# Altium footprint library SOT95P240X110-3N (1).PcbLib: 1 footprints
Each footprint in its own frame and in the unit in brackets; x right, y up, seen from the top. Pads: shape width x height; smd on the part's side, far side on the other; paste and mask are expansions set on the pad; w line width, h text height; cw(c..) or ccw(c..) is an arc to the next point about the centre after c.
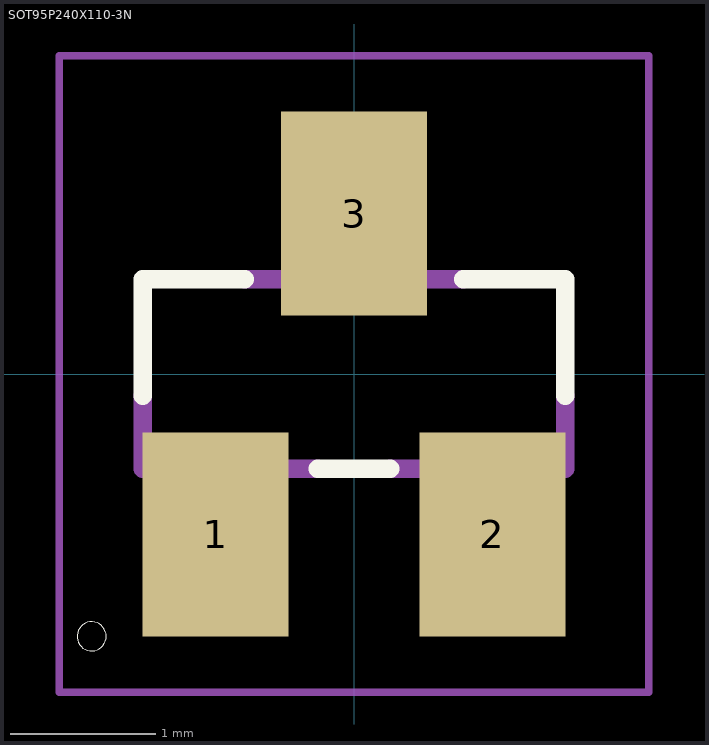
[diagram p0: the footprint, top view; thin cyan lines are the x and y axes]

## SOT95P240X110-3N [mm]
pads (3):
  rect 1x1.4 smd paste-25.4 mask-25.4: 1(-0.95,-1.1) 2(0.95,-1.1) 3(0,1.1)
Top Overlay:
  circle w0: c-1.8,-1.8 r0.1
  lines w0.127: -1.45,-0.15 -1.45,0.65 -0.75,0.65 ; -0.25,-0.65 0.25,-0.65 ; 0.75,0.65 1.45,0.65 1.45,-0.15
Top Paste:
  region: -1.45,-1.8 -0.45,-1.8 -0.45,-0.4 -1.45,-0.4
  region: 0.45,-1.8 1.45,-1.8 1.45,-0.4 0.45,-0.4
  region: -0.5,0.4 0.5,0.4 0.5,1.8 -0.5,1.8
Top Solder:
  region: -1.45,-1.8 -0.45,-1.8 -0.45,-0.4 -1.45,-0.4
  region: 0.45,-1.8 1.45,-1.8 1.45,-0.4 0.45,-0.4
  region: -0.5,0.4 0.5,0.4 0.5,1.8 -0.5,1.8
Mechanical 1:
  lines w0.051: -2.023,-2.183 -2.023,2.183 2.023,2.183 2.023,-2.183 -2.023,-2.183
  lines w0.127: -1.45,-0.15 -1.45,-0.65 -0.25,-0.65 ; -0.75,0.65 0.75,0.65 ; 0.25,-0.65 1.45,-0.65 1.45,-0.15